# Altium schematic symbol library imus.SchLib: 3 symbols
Pins are listed as number, name and electrical type; pins without a type are passive.

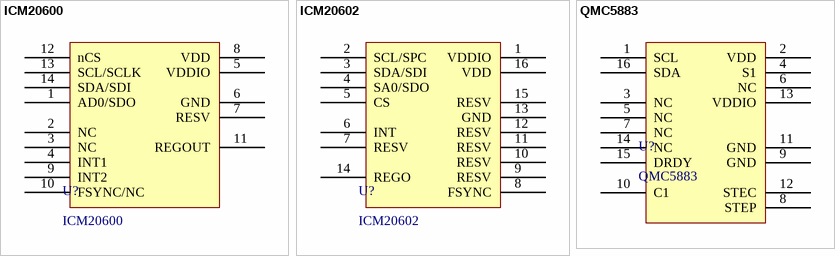
[diagram p0: symbols ICM20600 to QMC5883]

## ICM20600
designator U?
pins: 1 AD0/SDO, 2 NC, 3 NC, 4 INT1, 5 VDDIO, 6 GND, 7 RESV, 8 VDD, 9 INT2, 10 FSYNC/NC, 11 REGOUT, 12 nCS, 13 SCL/SCLK, 14 SDA/SDI

## ICM20602
designator U?
pins: 1 VDDIO, 2 SCL/SPC, 3 SDA/SDI, 4 SA0/SDO, 5 CS, 6 INT, 7 RESV, 8 FSYNC, 9 RESV, 10 RESV, 11 RESV, 12 RESV, 13 GND, 14 REGO, 15 RESV, 16 VDD

## QMC5883
designator U?
pins: 1 SCL, 2 VDD, 3 NC, 4 S1, 5 NC, 6 NC, 7 NC, 8 STEP, 9 GND, 10 C1, 11 GND, 12 STEC, 13 VDDIO, 14 NC, 15 DRDY, 16 SDA